# Altium integrated library TPS55340RTER.IntLib: 1 symbol
Pins are listed as number, name and electrical type; pins without a type are passive.

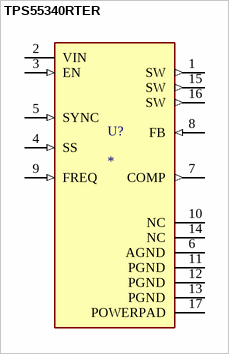
[diagram p0: symbol TPS55340RTER]

## TPS55340RTER
designator U?
5-A, 40-V, wide VIN boost, flyback, & SEPIC converter; MF: Texas Instruments; MP: TPS55340RTER; SnapEDA_Link: https://www.snapeda.com/parts/TPS55340RTER/Texas+Instruments/view-part/?ref=snap; Package: WQFN-16 Texas Instruments; Value: *; Check_prices: https://www.snapeda.com/parts/TPS55340RTER/Texas+Instruments/view-part/?ref=eda
footprint QFN50P300X300X80-17N
pins: 1 SW (out), 2 VIN (power), 3 EN (in), 4 SS (in), 5 SYNC (in), 6 AGND (power), 7 COMP (out), 8 FB (in), 9 FREQ (in), 10 NC (power), 11 PGND (power), 12 PGND (power), 13 PGND (power), 14 NC (power), 15 SW (out), 16 SW (out), 17 POWERPAD (power)